# Altium schematic symbol library PassiveComponents.SchLib: 23 symbols
Pins are listed as number, name and electrical type; pins without a type are passive.

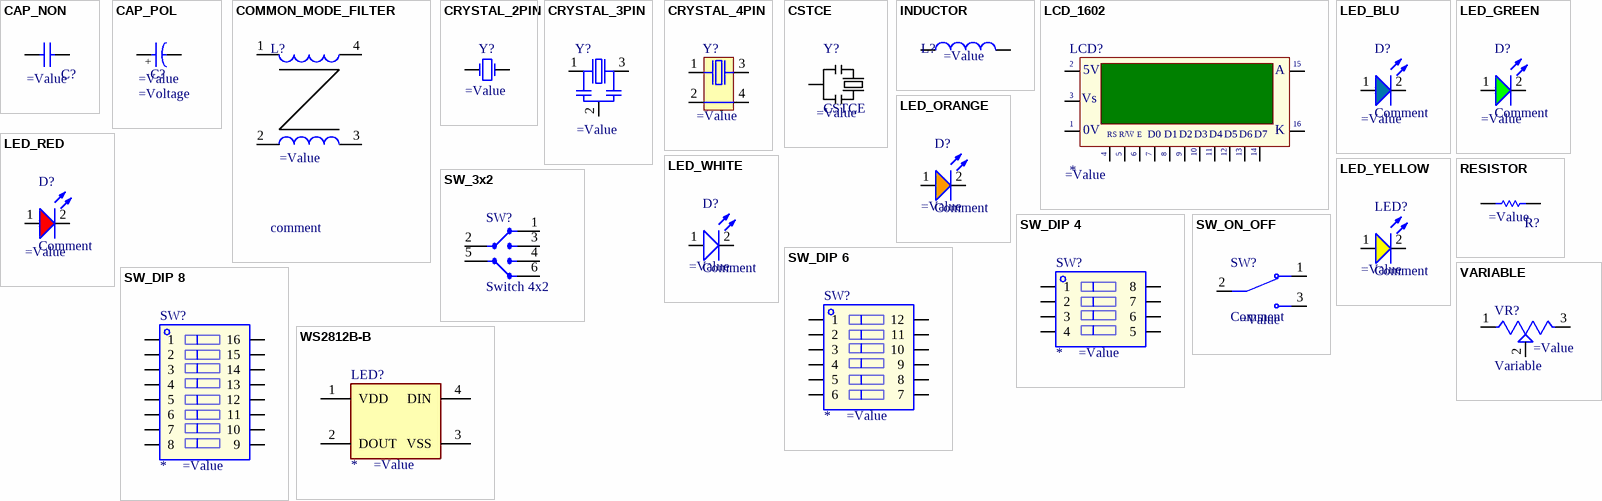
[diagram p0: symbols CAP_NON to WS2812B-B]

## CAP_NON
designator C?, comment CAP  (value not drawn)
=Description; Voltage: =Voltage; Value: =Value
pins: 1, 2

## CAP_POL
designator C?, comment CAP-P  (value not drawn)
=Description; Value: =Value; Voltage: =Voltage
pins: 1, 2
text: +

## COMMON_MODE_FILTER
designator L?, comment comment
=Description; Value: =Value
pins: 1, 2, 3, 4

## CRYSTAL_2PIN
designator Y?, comment Comment  (value not drawn)
=description; Value: =Value
pins: 1 OSC1, 2 OSC2

## CRYSTAL_3PIN
designator Y?, comment Comment  (value not drawn)
=description; Value: =Value
pins: 1, 2, 3

## CRYSTAL_4PIN
designator Y?, comment Comment  (value not drawn)
=description; Value: =Value
pins: 1, 2, 3, 4

## CSTCE
designator Y?
=Description; Value: =Value
pins: 1, 2, 3

## INDUCTOR
designator L?, comment Comment  (value not drawn)
=description; Value: =Value
pins: 1, 2

## LCD_1602
designator LCD?
=Description; Value: =Value
pins: 1 GND, 2 VDD, 3 VEE, 4 RS, 5 R/~{W}, 6 ~{EN}, 7 D0, 8 D1, 9 D2, 10 D3, 11 D4, 12 D5, 13 D6, 14 D7, 15 A, 16 K
text: 5V; Vs; |; 0V; R/W; E

## LED_BLU
designator D?, comment Comment
=Description; Value: =Value
pins: 1, 2

## LED_GREEN
designator D?, comment Comment
=Description; Value: =Value
pins: 1, 2

## LED_ORANGE
designator D?, comment Comment
=Description; Value: =Value
pins: 1, 2

## LED_RED
designator D?, comment Comment
=Description; Value: =Value
pins: 1, 2

## LED_WHITE
designator D?, comment Comment
=Description; Value: =Value
pins: 1, 2

## LED_YELLOW
designator LED?, comment Comment
=Description; Value: =Value
pins: 1, 2

## RESISTOR
designator R?, comment RES  (value not drawn)
=Description; Value: =Value
pins: 1, 2

## SW_3x2
designator SW?  value Switch 4x2
=Description
pins: 1, 2, 3 I/O2, 4, 5 6, 6

## SW_DIP 4
designator SW?
=Description; Value: =Value
pins: 1, 2, 3, 4, 5, 6, 7, 8

## SW_DIP 6
designator SW?
=Description; Value: =Value
pins: 1, 2, 3, 4, 5, 6, 7, 8, 9, 10, 11, 12

## SW_DIP 8
designator SW?
=Description; Value: =Value
pins: 1, 2, 3, 4, 5, 6, 7, 8, 9, 10, 11, 12, 13, 14, 15, 16

## SW_ON_OFF
designator SW?, comment Comment
=Description; Value: =Value
pins: 1, 2, 3

## VARIABLE
designator VR?, comment Variable
=Description; Value: =Value
pins: 1 CCW, 2 WIPER, 3 CW

## WS2812B-B
designator LED?
=Description; Value: =Value
pins: 1 VDD, 2 DOUT, 3 VSS, 4 DIN